# EAGLE library part PINH2X08 (library pinhead_smd)
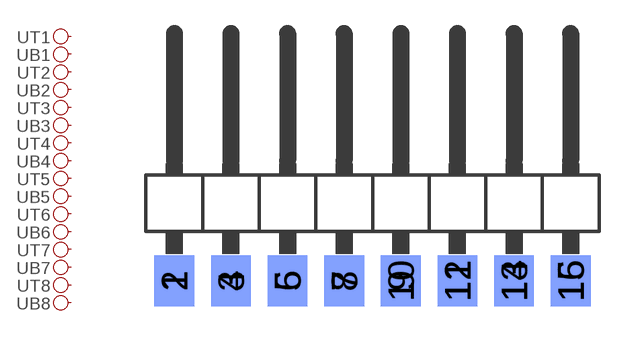
[diagram p5: symbol with the pads of PINH2X08SMD; footprint PINH2X08SMD]

Designator prefix -; gates T1=PINH1X01 B1=PINH1X01 T2=PINH1X01 B2=PINH1X01 T3=PINH1X01 B3=PINH1X01 T4=PINH1X01 B4=PINH1X01 T5=PINH1X01 B5=PINH1X01 T6=PINH1X01 B6=PINH1X01 T7=PINH1X01 B7=PINH1X01 T8=PINH1X01 B8=PINH1X01

## PINH2X08  [PINH2X08SMD]
1  T1:1  pas
2  B1:1  pas
3  T2:1  pas
4  B2:1  pas
5  T3:1  pas
6  B3:1  pas
7  T4:1  pas
8  B4:1  pas
9  T5:1  pas
10  B5:1  pas
11  T6:1  pas
12  B6:1  pas
13  T7:1  pas
14  B7:1  pas
15  T8:1  pas
16  B8:1  pas

## Footprint PINH2X08SMD (pad centres in mm)
smd 1.778 x 2.286: 1 -8.89,-2.223; 3 -6.35,-2.223; 5 -3.81,-2.223; 7 -1.27,-2.223; 9 1.27,-2.223; 11 3.81,-2.223; 13 6.35,-2.223; 15 8.89,-2.223
smd 1.778 x 2.286 bottom: 2 -8.89,-2.223; 4 -6.35,-2.223; 6 -3.81,-2.223; 8 -1.27,-2.223; 10 1.27,-2.223; 12 3.81,-2.223; 14 6.35,-2.223; 16 8.89,-2.223